# Altium schematic symbol library Fuse SMD.SchLib: 1 symbol
Pins are listed as number, name and electrical type; pins without a type are passive.

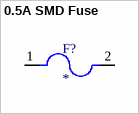
[diagram p0: symbol 0.5A SMD Fuse]

## 0.5A SMD Fuse
designator F?
2410 SMT Fuse | Quick Acting | 250mA | Higher AC Voltage; MP: 0679L3500-05; Package: None; Price: None; Value: *; Availability: Unavailable
footprint 1808 - Aliexpress
pins: 1, 2